# Altium schematic symbol library ATmega128RFA1.Schlib: 1 symbol
Pins are listed as number, name and electrical type; pins without a type are passive.

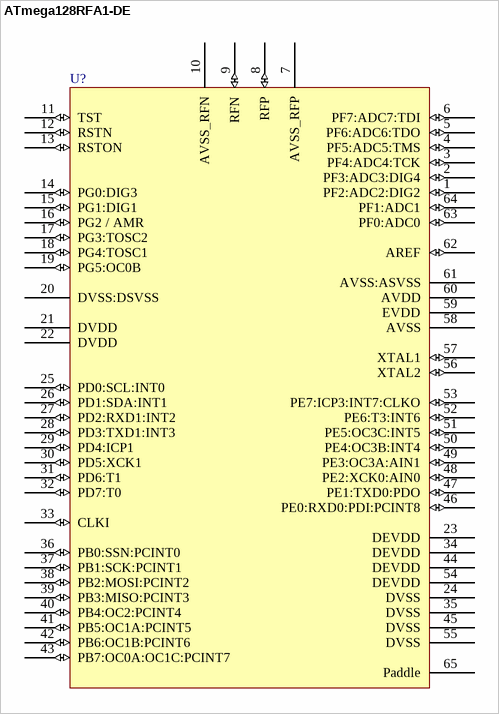
[diagram p0: symbol ATmega128RFA1-DE]

## ATmega128RFA1-DE
designator U?
802.15.4 compliant AVR transceiver; verified by: vlarsen; verified date: 2010-12-05; Status: Verified
footprint MLF64-M2
pins: 1 PF2:ADC2:DIG2 (io), 2 PF3:ADC3:DIG4 (io), 3 PF4:ADC4:TCK (io), 4 PF5:ADC5:TMS (io), 5 PF6:ADC6:TDO (io), 6 PF7:ADC7:TDI (io), 7 AVSS_RFP (power), 8 RFP (io), 9 RFN (io), 10 AVSS_RFN (power), 11 TST (io), 12 RSTN (io), 13 RSTON (io), 14 PG0:DIG3 (io), 15 PG1:DIG1 (io), 16 PG2 / AMR (io), 17 PG3:TOSC2 (io), 18 PG4:TOSC1 (io), 19 PG5:OC0B (io), 20 DVSS:DSVSS (power), 21 DVDD (power), 22 DVDD (power), 23 DEVDD (power), 24 DVSS (power), 25 PD0:SCL:INT0 (io), 26 PD1:SDA:INT1 (io), 27 PD2:RXD1:INT2 (io), 28 PD3:TXD1:INT3 (io), 29 PD4:ICP1 (io), 30 PD5:XCK1 (io), 31 PD6:T1 (io), 32 PD7:T0 (io), 33 CLKI (io), 34 DEVDD (power), 35 DVSS (power), 36 PB0:SSN:PCINT0 (io), 37 PB1:SCK:PCINT1 (io), 38 PB2:MOSI:PCINT2 (io), 39 PB3:MISO:PCINT3 (io), 40 PB4:OC2:PCINT4 (io), 41 PB5:OC1A:PCINT5 (io), 42 PB6:OC1B:PCINT6 (io), 43 PB7:OC0A:OC1C:PCINT7 (io), 44 DEVDD (power), 45 DVSS (power), 46 PE0:RXD0:PDI:PCINT8 (io), 47 PE1:TXD0:PDO (io), 48 PE2:XCK0:AIN0 (io), 49 PE3:OC3A:AIN1 (io), 50 PE4:OC3B:INT4 (io), 51 PE5:OC3C:INT5 (io), 52 PE6:T3:INT6 (io), 53 PE7:ICP3:INT7:CLKO (io), 54 DEVDD (power), 55 DVSS (power), 56 XTAL2 (io), 57 XTAL1 (io), 58 AVSS (power), 59 EVDD (power), 60 AVDD (power), 61 AVSS:ASVSS (power), 62 AREF (io), 63 PF0:ADC0 (io), 64 PF1:ADC1 (io), 65 Paddle (power)